# Altium footprint library PCB - LED - LED PLCC6-CREE 5.5X5.3MM.PCBLIB: 1 footprints
Each footprint in its own frame and in the unit in brackets; x right, y up, seen from the top. Pads: shape width x height; smd on the part's side, far side on the other; paste and mask are expansions set on the pad; w line width, h text height; cw(c..) or ccw(c..) is an arc to the next point about the centre after c.
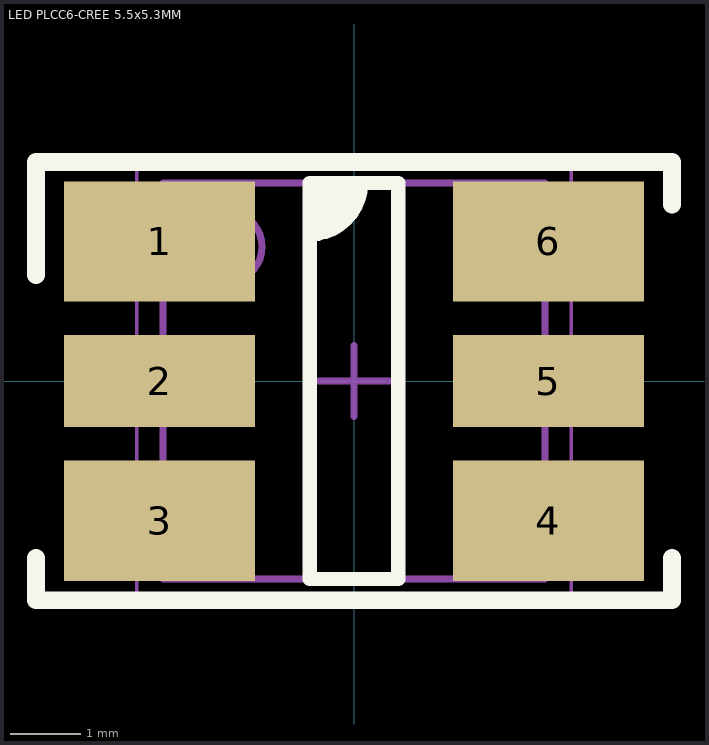
[diagram p0: the footprint, top view; thin cyan lines are the x and y axes]

## LED PLCC6-CREE 5.5x5.3MM [mm] "SOJ, 6-Leads, Body 5.60x5.50mm, Pitch 1.80mm, IPC Medium Density"
height 2.6
pads (6):
  rect 2.7x1.7 smd: 1(-2.75,1.975) 3(-2.75,-1.975) 4(2.75,-1.975) 6(2.75,1.975)
  rect 2.7x1.3 smd: 2(-2.75,0) 5(2.75,0)
Top Overlay:
  region: -0.625,2.8 0.125,2.8 0.125,2.475 -0.275,2.075 -0.625,2.075
  lines w0.2: -0.625,2.075 ccw(c-0.625,2.8) 0.1,2.8 ; -0.625,-2.8 0.625,-2.8 0.625,2.8 -0.625,2.8 -0.625,-2.8
  lines w0.254: -4.5,-2.5 -4.5,-3.1 4.5,-3.1 4.5,-2.5 ; -4.5,1.5 -4.5,3.1 4.5,3.1 4.5,2.5
Mechanical 13:
  circle w0.1: c-1.8,1.9 r0.5
  lines w0.1: -2.7,-2.8 2.7,-2.8 2.7,2.8 -2.7,2.8 -2.7,-2.8
Mechanical 15:
  lines w0.05: -3.075,-3.05 3.075,-3.05 3.075,3.05 -3.075,3.05 -3.075,-3.05
  lines w0.1: -0.5,0 0.5,0 ; 0,-0.5 0,0.5
3D body "Cree SLV6A.STEP": height 2.6, standoff 0, extent -2.75,-2.75 2.75,2.75